# EAGLE library part 224-?-00-0602J (library con-3m)
Zero Insertion Force Socked Source: http://www.3M.com/ehpd
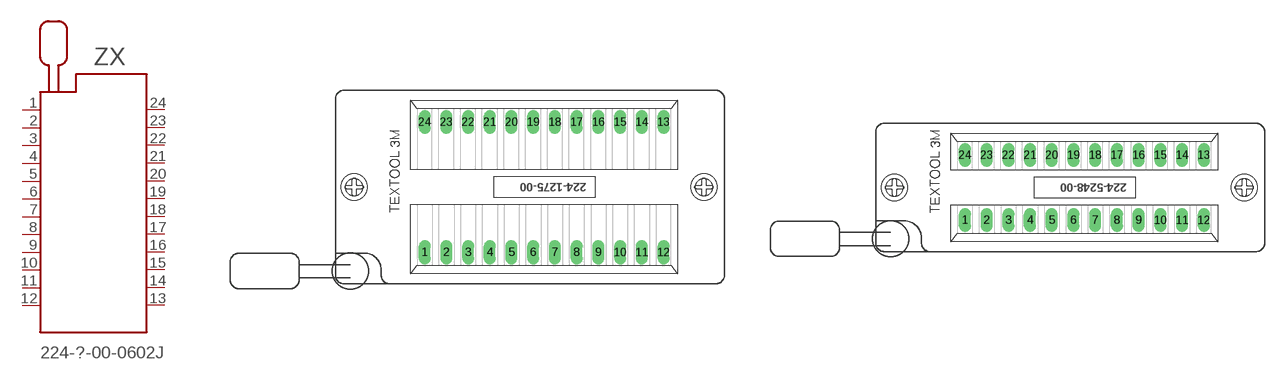
[diagram p9: symbol with the pads of 224-1275-00-0602J; footprints 224-1275-00-0602J, 224-5248-00-0602J]

Designator prefix ZX

## 224-1275-00-0602J (MF: 3M; MPN: 224-1275-00-0602J; OC_FARNELL: 9897348; OC_NEWARK: 10C2549)  [224-1275-00-0602J]
1  1  pas
2  2  pas
3  3  pas
4  4  pas
5  5  pas
6  6  pas
7  7  pas
8  8  pas
9  9  pas
10  10  pas
11  11  pas
12  12  pas
13  13  pas
14  14  pas
15  15  pas
16  16  pas
17  17  pas
18  18  pas
19  19  pas
20  20  pas
21  21  pas
22  22  pas
23  23  pas
24  24  pas

## 224-5248-00-0602J (MF: 3M; MPN: 224-5248-00-0602J; OC_FARNELL: unknown; OC_NEWARK: 85K7820)  [224-5248-00-0602J]
Pads as for 224-1275-00-0602J

## Footprint 224-1275-00-0602J (pad centres in mm)
3M TEXTOOL 24 pol. DIP Lever actuated zero insertion force mechanism Hersteller: 3M TEXTOOL Herstellerbez.: 224-1275-00-0602J Farnell Best.-Nr.: 4665454 Source: http://www.3M.com/ehpd
drill 0.9 long: 1 -13.97,-7.62; 2 -11.43,-7.62; 3 -8.89,-7.62; 4 -6.35,-7.62; 5 -3.81,-7.62; 6 -1.27,-7.62; 7 1.27,-7.62; 8 3.81,-7.62; 9 6.35,-7.62; 10 8.89,-7.62; 11 11.43,-7.62; 12 13.97,-7.62; 13 13.97,7.62; 14 11.43,7.62; 15 8.89,7.62; 16 6.35,7.62; 17 3.81,7.62; 18 1.27,7.62; 19 -1.27,7.62; 20 -3.81,7.62; 21 -6.35,7.62; 22 -8.89,7.62; 23 -11.43,7.62; 24 -13.97,7.62
hole 2 at 18.7,0
hole 2 at -22.2,0

## Footprint 224-5248-00-0602J (pad centres in mm)
3M TEXTOOL 24 pol. DIP Lever actuated zero insertion force mechanism Hersteller: 3M TEXTOOL Herstellerbez.: 224-5248-00-0602J Source: http://www.3M.com/ehpd
drill 0.9 long: 1 -13.97,-3.81; 2 -11.43,-3.81; 3 -8.89,-3.81; 4 -6.35,-3.81; 5 -3.81,-3.81; 6 -1.27,-3.81; 7 1.27,-3.81; 8 3.81,-3.81; 9 6.35,-3.81; 10 8.89,-3.81; 11 11.43,-3.81; 12 13.97,-3.81; 13 13.97,3.81; 14 11.43,3.81; 15 8.89,3.81; 16 6.35,3.81; 17 3.81,3.81; 18 1.27,3.81; 19 -1.27,3.81; 20 -3.81,3.81; 21 -6.35,3.81; 22 -8.89,3.81; 23 -11.43,3.81; 24 -13.97,3.81
hole 2 at 18.7,0
hole 2 at -22.2,0